# Altium schematic symbol library Schematics.SchLib: 13 symbols
Pins are listed as number, name and electrical type; pins without a type are passive.

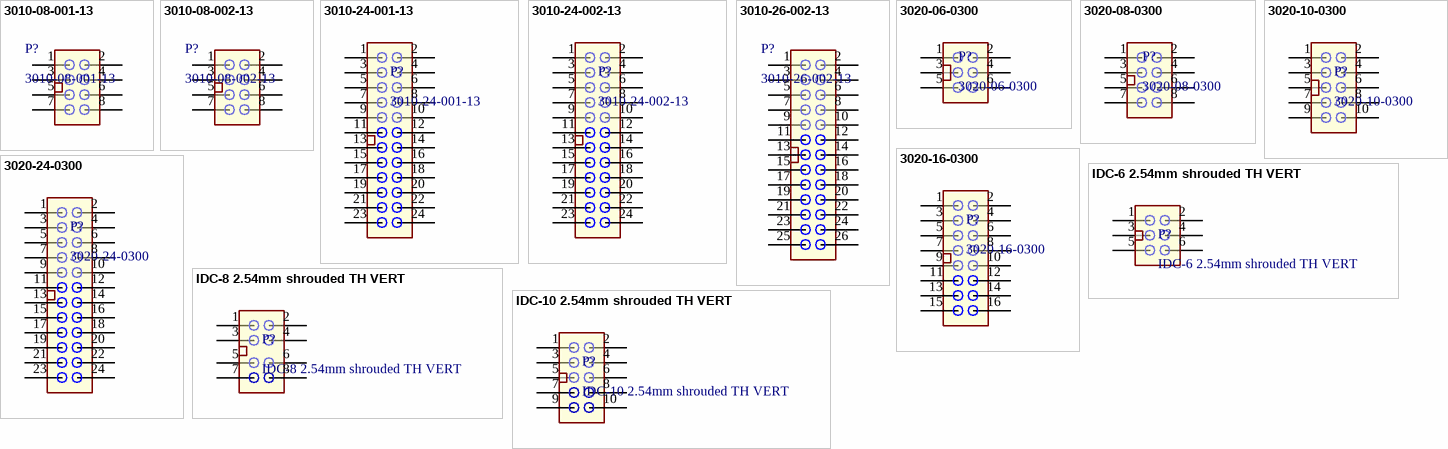
[diagram p0: symbols 3010-08-001-13 to IDC-10 2.54mm shrouded TH VERT]

## 3010-08-001-13
designator P?
IDCC-08MR 2.54mm shrouded TH VERT CNC Tech Long Latches
footprint 3010-08-001-13
pins: 1, 2, 3, 4, 5, 6, 7, 8

## 3010-08-002-13
designator P?
IDCC-08M 2.54mm shrouded TH R/A CNC Tech Long Latches
footprint 3010-08-002-13
pins: 1, 2, 3, 4, 5, 6, 7, 8

## 3010-24-001-13
designator P?
IDCC-24M 2.54mm shrouded TH VERT CNC Tech Long Latches
footprint 3010-24-001-13
pins: 1, 2, 3, 4, 5, 6, 7, 8, 9, 10, 11, 12, 13, 14, 15, 16, 17, 18, 19, 20, 21, 22, 23, 24

## 3010-24-002-13
designator P?
IDCC-24MR 2.54mm shrouded TH R/A CNC Tech Long Latches
footprint 3010-24-002-13
pins: 1, 2, 3, 4, 5, 6, 7, 8, 9, 10, 11, 12, 13, 14, 15, 16, 17, 18, 19, 20, 21, 22, 23, 24

## 3010-26-002-13
designator P?
IDCC-26MR 2.54mm shrouded TH R/A CNC Tech Long Latches
footprint 3010-26-002-13
pins: 1, 2, 3, 4, 5, 6, 7, 8, 9, 10, 11, 12, 13, 14, 15, 16, 17, 18, 19, 20, 21, 22, 23, 24, 25, 26

## 3020-06-0300
designator P?
IDC-6 2.54mm shrouded SMD VERT CNC Tech
footprint 3020-06-0300 (IDC-6 2.54mm shrouded SMD VERT CNC Tech)
pins: 1, 2, 3, 4, 5, 6

## 3020-08-0300
designator P?
IDC-08 2.54mm shrouded SMD VERT CNC Tech
footprint 3020-08-0300 (IDC-8 2.54mm shrouded SMD VERT CNC Tech)
pins: 1, 2, 3, 4, 5, 6, 7, 8

## 3020-10-0300
designator P?
IDC-10 2.54mm shrouded SMD VERT CNC Tech
footprint 3020-10-0300 (IDC-10 2.54mm shrouded SMD VERT CNC Tech)
pins: 1, 2, 3, 4, 5, 6, 7, 8, 9, 10

## 3020-16-0300
designator P?
IDC-16 2.54mm shrouded SMD VERT CNC Tech
footprint 3020-16-0300 (IDC-16 2.54mm shrouded SMD VERT CNC Tech)
pins: 1, 2, 3, 4, 5, 6, 7, 8, 9, 10, 11, 12, 13, 14, 15, 16

## 3020-24-0300
designator P?
IDC-24 2.54mm shrouded SMD VERT CNC Tech
footprint 3020-24-0300 (IDC-16 2.54mm shrouded SMD VERT CNC Tech)
pins: 1, 2, 3, 4, 5, 6, 7, 8, 9, 10, 11, 12, 13, 14, 15, 16, 17, 18, 19, 20, 21, 22, 23, 24

## IDC-6 2.54mm shrouded TH VERT
designator P?
footprint IDC-6 2.54mm shrouded TH VERT
pins: 1, 2, 3, 4, 5, 6

## IDC-8 2.54mm shrouded TH VERT
designator P?
footprint IDC-8 2.54mm shrouded TH VERT
pins: 1, 2, 3, 4, 5, 6, 7, 8

## IDC-10 2.54mm shrouded TH VERT
designator P?
footprint IDC-10 2.54mm shrouded TH VERT
pins: 1, 2, 3, 4, 5, 6, 7, 8, 9, 10